# Altium schematic symbol library 23LC1024-E_SN.Schlib: 1 symbol
Pins are listed as number, name and electrical type; pins without a type are passive.

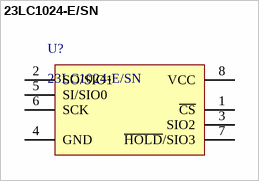
[diagram p0: symbol 23LC1024-E/SN]

## 23LC1024-E/SN
designator U?
SRAM Memory IC 1Mb (128K x 8) SPI - Quad I/O 16 MHz 8-SOIC
pins: 1 ~{CS}, 2 SO/SIO1, 3 SIO2, 4 GND, 5 SI/SIO0, 6 SCK, 7 ~{HOLD}/SIO3, 8 VCC